# Altium schematic symbol library Sch_Microchip.SchLib: 4 symbols
Pins are listed as number, name and electrical type; pins without a type are passive.

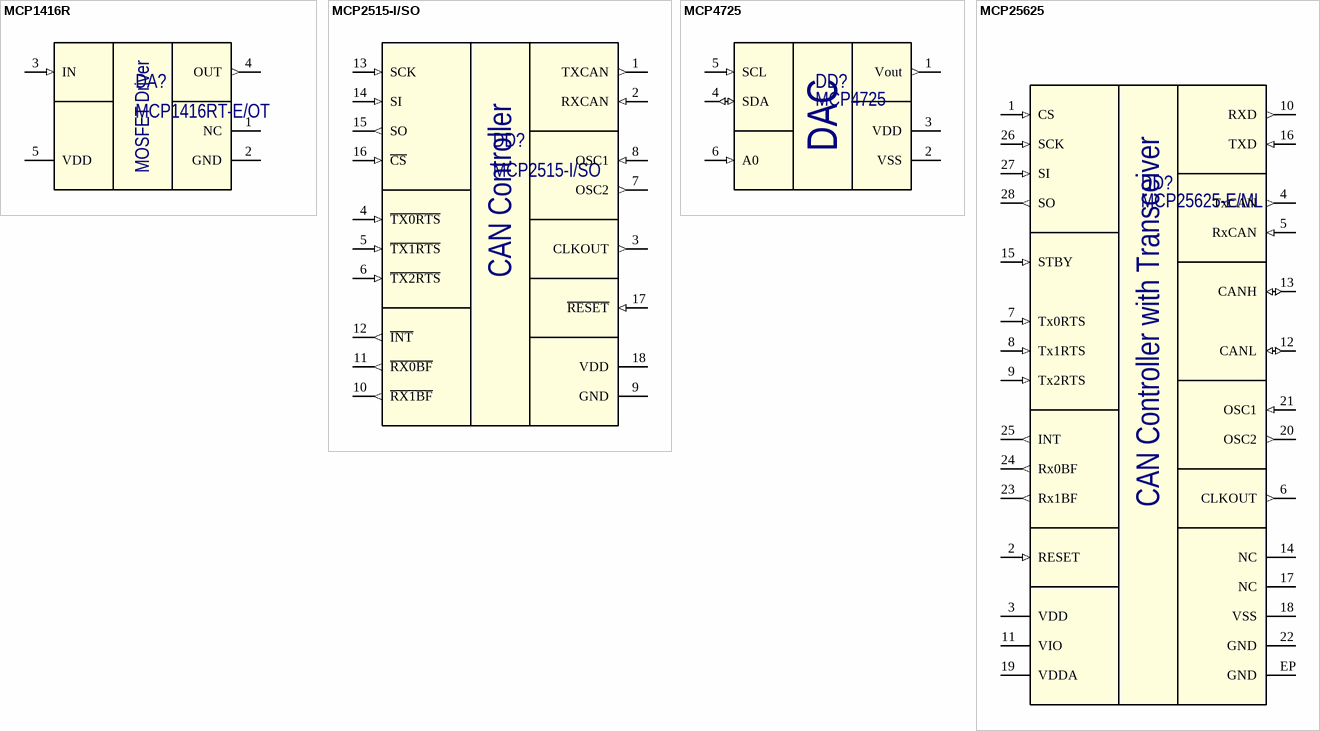
[diagram p0: symbols MCP1416R to MCP25625]

## MCP1416R
designator DA?, comment MCP1416RT-E/OT
Tiny 1.5A, High-Speed Power MOSFET Driver; Manufacturer: Microchip; Part Number: MCP1416RT-E/OT
footprint SOT23-5 (SOT23, 6-Leads, Body 2.90x2.80mm, Pitch 0.95mm, IPC Medium Density)
pins: 1 NC, 2 GND (power), 3 IN (in), 4 OUT (out), 5 VDD (power)
text: MOSFET Driver

## MCP2515-I/SO
designator DD?
Stand-Alone CAN Controller with SPI Interface; Manufacturer: Microchip; Part Number: MCP2515-I/SO
footprint SOIC-18 (SOIC, 18-Leads, Body 11,55x7,50mm, Pitch 1,27mm, IPC Medium Density)
pins: 1 TXCAN (out), 2 RXCAN (in), 3 CLKOUT (out), 4 ~{TX0RTS} (in), 5 ~{TX1RTS} (in), 6 ~{TX2RTS} (in), 7 OSC2 (out), 8 OSC1 (in), 9 GND (power), 10 ~{RX1BF} (out), 11 ~{RX0BF} (out), 12 ~{INT} (out), 13 SCK (in), 14 SI (in), 15 SO (out), 16 ~{CS} (in), 17 ~{RESET} (in), 18 VDD (power)
text: CAN Controller

## MCP4725
designator DD?
12-bit DAC with EEPROM; Manufacturer: Microchip; Part Number: MCP4725
footprint SOT23-6 (SOT23, 6-Leads, Body 2.90x2.80mm, Pitch 0.95mm, IPC Medium Density)
pins: 1 Vout (out), 2 VSS (power), 3 VDD (power), 4 SDA (io), 5 SCL (in), 6 A0 (in)
text: DAC

## MCP25625
designator DD?, comment MCP25625-E/ML
CAN Controller with Integrated Transceiver; Manufacturer: Microchip; Part Number: MCP25625-E/ML
footprint QFN28 (6x6)
pins: 1 CS (in), 2 RESET (in), 3 VDD (power), 4 TxCAN (out), 5 RxCAN (in), 6 CLKOUT (out), 7 Tx0RTS (in), 8 Tx1RTS (in), 9 Tx2RTS (in), 10 RXD (out), 11 VIO (power), 12 CANL (io), 13 CANH (io), 14 NC, 15 STBY (in), 16 TXD (in), 17 NC, 18 VSS (power), 19 VDDA (power), 20 OSC2 (out), 21 OSC1 (in), 22 GND (power), 23 Rx1BF (out), 24 Rx0BF (out), 25 INT (out), 26 SCK (in), 27 SI (in), 28 SO (out), EP GND
text: CAN Controller with Transceiver